# Altium schematic symbol library ATSAMD20J16A.Schlib: 1 symbol
Pins are listed as number, name and electrical type; pins without a type are passive.

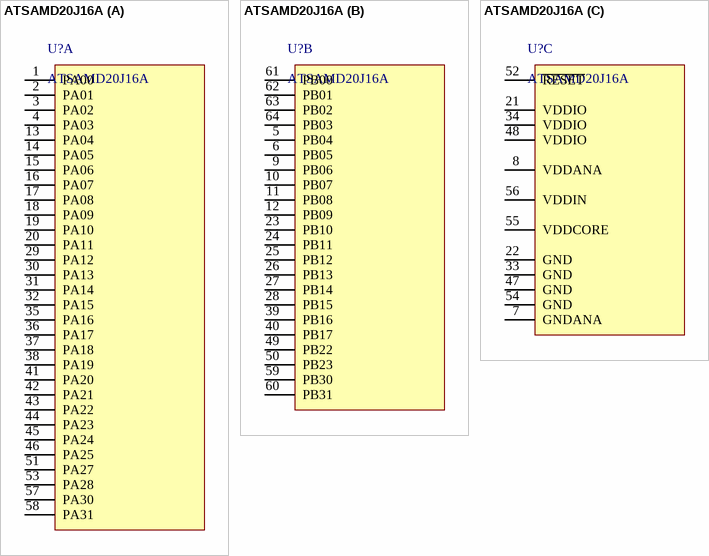
[diagram p0: symbol ATSAMD20J16A]

## ATSAMD20J16A
designator U?
IC MCU 32BIT 64KB FLASH 64TQFP
part A pins: 1 PA00, 2 PA01, 3 PA02, 4 PA03, 13 PA04, 14 PA05, 15 PA06, 16 PA07, 17 PA08, 18 PA09, 19 PA10, 20 PA11, 29 PA12, 30 PA13, 31 PA14, 32 PA15, 35 PA16, 36 PA17, 37 PA18, 38 PA19, 41 PA20, 42 PA21, 43 PA22, 44 PA23, 45 PA24, 46 PA25, 51 PA27, 53 PA28, 57 PA30, 58 PA31
part B pins: 5 PB04, 6 PB05, 9 PB06, 10 PB07, 11 PB08, 12 PB09, 23 PB10, 24 PB11, 25 PB12, 26 PB13, 27 PB14, 28 PB15, 39 PB16, 40 PB17, 49 PB22, 50 PB23, 59 PB30, 60 PB31, 61 PB00, 62 PB01, 63 PB02, 64 PB03
part C pins: 7 GNDANA, 8 VDDANA, 21 VDDIO, 22 GND, 33 GND, 34 VDDIO, 47 GND, 48 VDDIO, 52 ~{RESET}, 54 GND, 55 VDDCORE, 56 VDDIN